# Altium footprint library ANT1818B00BT1516S.PcbLib: 1 footprints
Each footprint in its own frame and in the unit in brackets; x right, y up, seen from the top. Pads: shape width x height; smd on the part's side, far side on the other; paste and mask are expansions set on the pad; w line width, h text height; cw(c..) or ccw(c..) is an arc to the next point about the centre after c.
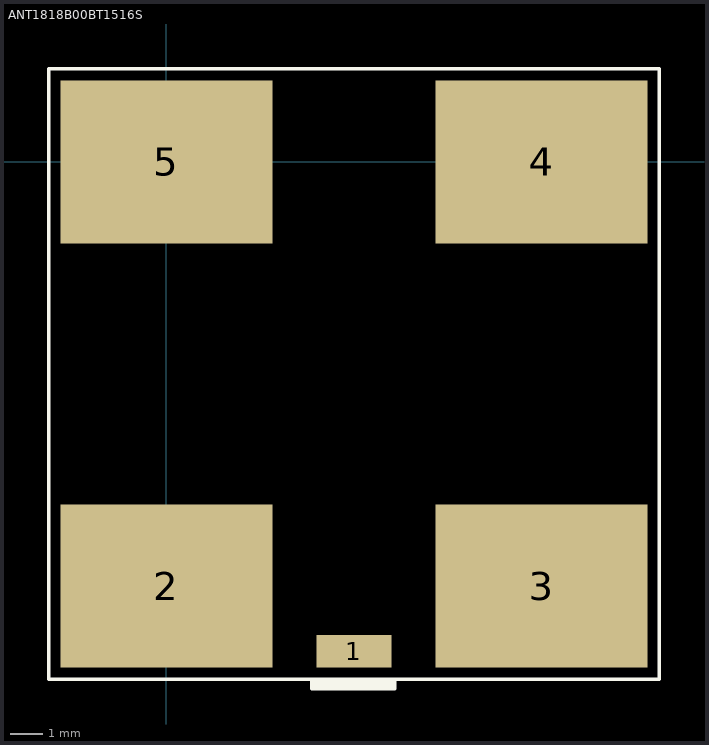
[diagram p0: the footprint, top view; thin cyan lines are the x and y axes]

## ANT1818B00BT1516S [mm] "Ceramic Patch Antenna"
height 4
pads (5):
  rect 2.3x1 smd: 1(5.75,-15)
  rect 6.5x5 smd: 2(0,-13) 3(11.5,-13) 4(11.5,0) 5(0,0)
Top Overlay:
  rectangle: 4.45,-16.15 7,-15.8
  lines w0.1: -3.6,-15.85 4.45,-15.85 4.45,-16.15 7,-16.15 7,-15.85 15.1,-15.85 15.1,2.85 -3.6,2.85 -3.6,-15.85
3D body: height 3.9, standoff 0, extent -3.25,-15.5 14.75,2.5
3D body: height 4, standoff 3.9, extent -2.25,-14.5 13.75,1.5
3D body: height 3.9, standoff 0, extent 4.6,-15.55 6.9,-15.5